# EAGLE library part CALCULATOR-DIL40 (library ecs-parts)
ELEC6231 VLSI Group Design Project Calculator in a DIL40 Package
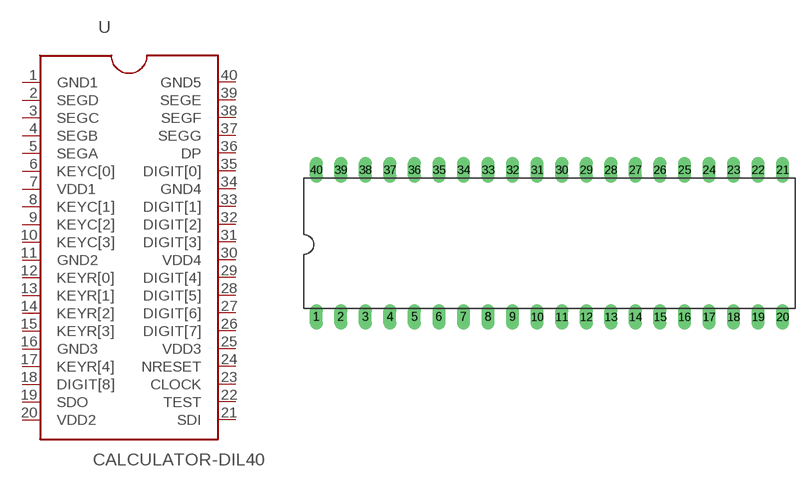
[diagram p2: symbol with the pads of DIL40; footprint DIL40]

Designator prefix -

## CALCULATOR-DIL40  [DIL40]
1  GND1  pas
2  SEGD  pas
3  SEGC  pas
4  SEGB  pas
5  SEGA  pas
6  KEYC[0]  pas
7  VDD1  pas
8  KEYC[1]  pas
9  KEYC[2]  pas
10  KEYC[3]  pas
11  GND2  pas
12  KEYR[0]  pas
13  KEYR[1]  pas
14  KEYR[2]  pas
15  KEYR[3]  pas
16  GND3  pas
17  KEYR[4]  pas
18  DIGIT[8]  pas
19  SDO  pas
20  VDD2  pas
21  SDI  pas
22  TEST  pas
23  CLOCK  pas
24  NRESET  pas
25  VDD3  pas
26  DIGIT[7]  pas
27  DIGIT[6]  pas
28  DIGIT[5]  pas
29  DIGIT[4]  pas
30  VDD4  pas
31  DIGIT[3]  pas
32  DIGIT[2]  pas
33  DIGIT[1]  pas
34  GND4  pas
35  DIGIT[0]  pas
36  DP  pas
37  SEGG  pas
38  SEGF  pas
39  SEGE  pas
40  GND5  pas

## Footprint DIL40 (pad centres in mm)
Dual In Line Package
drill 0.813 long: 1 -24.13,-7.62; 2 -21.59,-7.62; 3 -19.05,-7.62; 4 -16.51,-7.62; 5 -13.97,-7.62; 6 -11.43,-7.62; 7 -8.89,-7.62; 8 -6.35,-7.62; 9 -3.81,-7.62; 10 -1.27,-7.62; 11 1.27,-7.62; 12 3.81,-7.62; 13 6.35,-7.62; 14 8.89,-7.62; 15 11.43,-7.62; 16 13.97,-7.62; 17 16.51,-7.62; 18 19.05,-7.62; 19 21.59,-7.62; 20 24.13,-7.62; 21 24.13,7.62; 22 21.59,7.62; 23 19.05,7.62; 24 16.51,7.62; 25 13.97,7.62; 26 11.43,7.62; 27 8.89,7.62; 28 6.35,7.62; 29 3.81,7.62; 30 1.27,7.62; 31 -1.27,7.62; 32 -3.81,7.62; 33 -6.35,7.62; 34 -8.89,7.62; 35 -11.43,7.62; 36 -13.97,7.62; 37 -16.51,7.62; 38 -19.05,7.62; 39 -21.59,7.62; 40 -24.13,7.62